# Altium footprint library QFN-76_9x9x04P.PcbLib: 1 footprints
Each footprint in its own frame and in the unit in brackets; x right, y up, seen from the top. Pads: shape width x height; smd on the part's side, far side on the other; paste and mask are expansions set on the pad; w line width, h text height; cw(c..) or ccw(c..) is an arc to the next point about the centre after c.
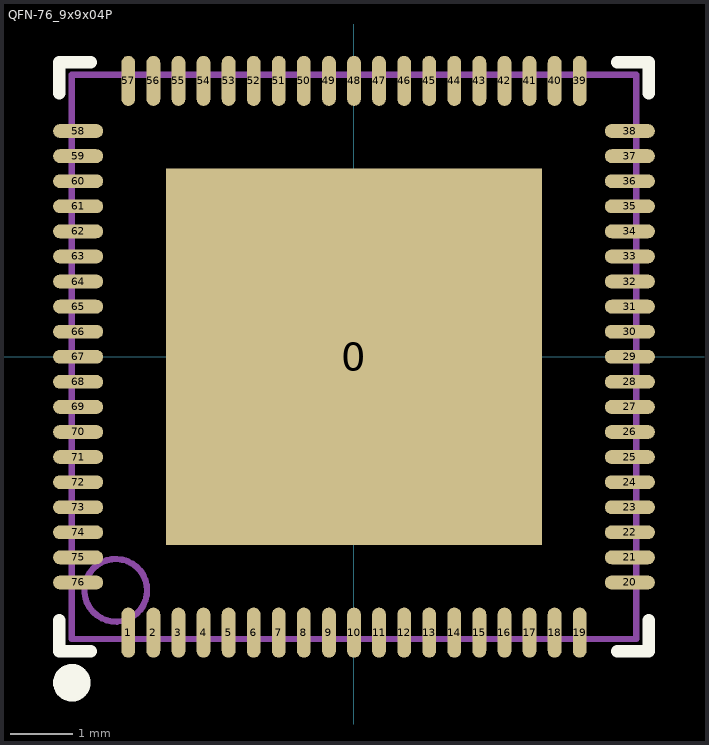
[diagram p0: the footprint, top view; thin cyan lines are the x and y axes]

## QFN-76_9x9x04P [mm]
pads (77):
  rect 6x6 smd mask+0.051: 0(0,0)
  oval 0.22x0.8 smd mask+0.051: 1(-3.6,-4.4) 2(-3.2,-4.4) 3(-2.8,-4.4) 4(-2.4,-4.4) 5(-2,-4.4) 6(-1.6,-4.4) 7(-1.2,-4.4) 8(-0.8,-4.4) 9(-0.4,-4.4) 10(0,-4.4) 11(0.4,-4.4) 12(0.8,-4.4) 13(1.2,-4.4) 14(1.6,-4.4) 15(2,-4.4) 16(2.4,-4.4) 17(2.8,-4.4) 18(3.2,-4.4) 19(3.6,-4.4) 39(3.6,4.4) 40(3.2,4.4) 41(2.8,4.4) 42(2.4,4.4) 43(2,4.4) 44(1.6,4.4) 45(1.2,4.4) 46(0.8,4.4) 47(0.4,4.4) 48(0,4.4) 49(-0.4,4.4) 50(-0.8,4.4) 51(-1.2,4.4) 52(-1.6,4.4) 53(-2,4.4) 54(-2.4,4.4) 55(-2.8,4.4) 56(-3.2,4.4) 57(-3.6,4.4)
  oval 0.8x0.22 smd mask+0.051: 20(4.4,-3.6) 21(4.4,-3.2) 22(4.4,-2.8) 23(4.4,-2.4) 24(4.4,-2) 25(4.4,-1.6) 26(4.4,-1.2) 27(4.4,-0.8) 28(4.4,-0.4) 29(4.4,0) 30(4.4,0.4) 31(4.4,0.8) 32(4.4,1.2) 33(4.4,1.6) 34(4.4,2) 35(4.4,2.4) 36(4.4,2.8) 37(4.4,3.2) 38(4.4,3.6) 58(-4.4,3.6) 59(-4.4,3.2) 60(-4.4,2.8) 61(-4.4,2.4) 62(-4.4,2) 63(-4.4,1.6) 64(-4.4,1.2) 65(-4.4,0.8) 66(-4.4,0.4) 67(-4.4,0) 68(-4.4,-0.4) 69(-4.4,-0.8) 70(-4.4,-1.2) 71(-4.4,-1.6) 72(-4.4,-2) 73(-4.4,-2.4) 74(-4.4,-2.8) 75(-4.4,-3.2) 76(-4.4,-3.6)
Top Overlay:
  circle w0.3: c-4.5,-5.2 r0.15
  lines w0.2: -4.7,-4.2 -4.7,-4.7 -4.2,-4.7 ; -4.7,4.2 -4.7,4.7 -4.2,4.7 ; 4.2,-4.7 4.7,-4.7 4.7,-4.2 ; 4.2,4.7 4.7,4.7 4.7,4.2
Mechanical 13:
  circle w0.1: c-3.8,-3.725 r0.5
  lines w0.1: -4.5,-4.5 4.5,-4.5 4.5,4.5 -4.5,4.5 -4.5,-4.5